# Altium integrated library PIC18F1320-I_SS.IntLib: 1 symbol
Pins are listed as number, name and electrical type; pins without a type are passive.

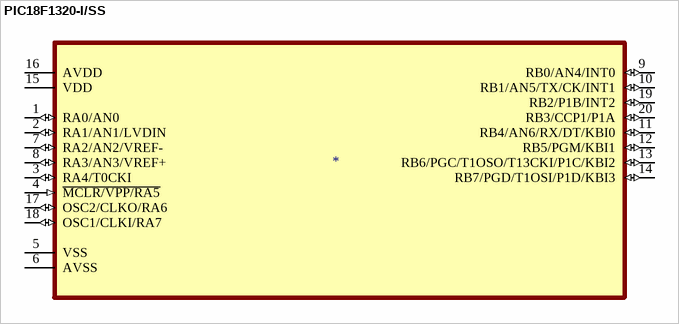
[diagram p0: symbol PIC18F1320-I/SS]

## PIC18F1320-I/SS
designator ?
PIC18 Series 256 B RAM 8 kB Flash 8-Bit Enhanced Microcontroller - SSOP-20; MF: Microchip; MP: PIC18F1320-I/SS; Availability: Unavailable; Value: *; Package: SSOP-20 Microchip; Price: None; SnapEDA_Link: https://www.snapeda.com/parts/PIC18F1320-I/SS/Microchip/view-part/433140/?ref=snap
footprint SOP65P780X200-20N
pins: 1 RA0/AN0 (io), 2 RA1/AN1/LVDIN (io), 3 RA4/T0CKI (io), 4 ~{MCLR/VPP/RA5} (in), 5 VSS (power), 6 AVSS (power), 7 RA2/AN2/VREF- (io), 8 RA3/AN3/VREF+ (io), 9 RB0/AN4/INT0 (io), 10 RB1/AN5/TX/CK/INT1 (io), 11 RB4/AN6/RX/DT/KBI0 (io), 12 RB5/PGM/KBI1 (io), 13 RB6/PGC/T1OSO/T13CKI/P1C/KBI2 (io), 14 RB7/PGD/T1OSI/P1D/KBI3 (io), 15 VDD (power), 16 AVDD (power), 17 OSC2/CLKO/RA6 (io), 18 OSC1/CLKI/RA7 (io), 19 RB2/P1B/INT2 (io), 20 RB3/CCP1/P1A (io)